# Altium footprint library VSSOP.PcbLib: 1 footprints
Each footprint in its own frame and in the unit in brackets; x right, y up, seen from the top. Pads: shape width x height; smd on the part's side, far side on the other; paste and mask are expansions set on the pad; w line width, h text height; cw(c..) or ccw(c..) is an arc to the next point about the centre after c.
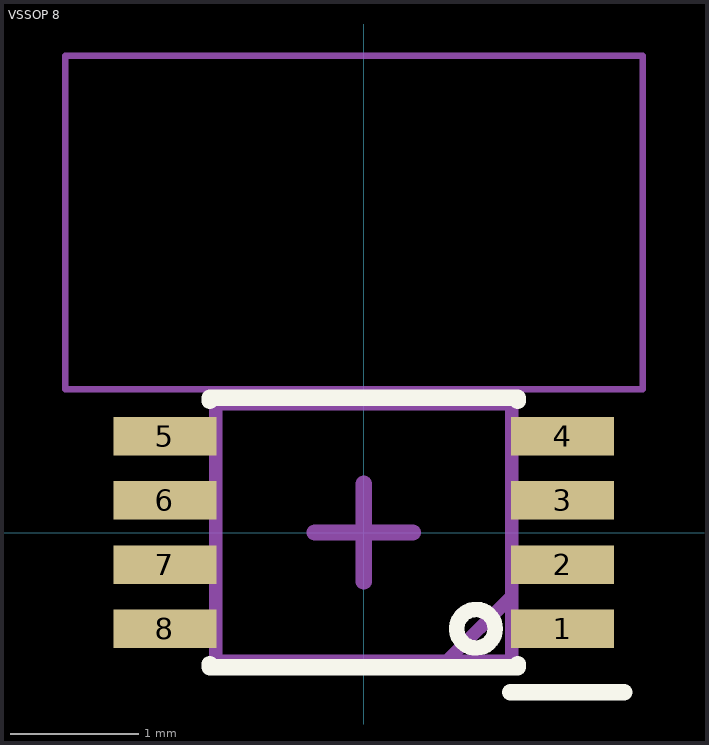
[diagram p0: the footprint, top view; thin cyan lines are the x and y axes]

## VSSOP 8 [mm] "SOP50P310X90-8N"
pads (8):
  rect 0.8x0.3 smd mask+0.05: 1(1.55,-0.75) 2(1.55,-0.25) 3(1.55,0.25) 4(1.55,0.75) 5(-1.55,0.75) 6(-1.55,0.25) 7(-1.55,-0.25) 8(-1.55,-0.75)
Top Overlay:
  circle w0.12: c0.875,-0.75 r0.15
  lines w0.127: -1.2,-1.025 -1.2,-1.05 1.2,-1.05 1.2,-1.025 ; -1.2,1.025 -1.2,1.05 1.2,1.05 1.2,1.025 ; 1.143,-1.245 2.032,-1.245
Mechanical 14:
  circle w0.01: c0.875,-0.75 r0.2
  lines w0.01: -1.2,-0.85 -1.6,-0.85 -1.6,-0.65 -1.2,-0.65 ; -1.2,-0.35 -1.6,-0.35 -1.6,-0.15 -1.2,-0.15 ; -1.2,0.15 -1.6,0.15 -1.6,0.35 -1.2,0.35 ; -1.2,0.65 -1.6,0.65 -1.6,0.85 -1.2,0.85 ; 1.2,-0.85 1.6,-0.85 1.6,-0.65 1.2,-0.65 ; 1.2,-0.35 1.6,-0.35 1.6,-0.15 1.2,-0.15 ; 1.2,0.15 1.6,0.15 1.6,0.35 1.2,0.35 ; 1.2,0.65 1.6,0.65 1.6,0.85 1.2,0.85 ; -1.2,-1.05 1.2,-1.05 1.2,1.05 -1.2,1.05 -1.2,-1.05
  text "5" at -1.3,0.6 h0.75
  text "8" at -1.3,-0.9 h0.75
  text "4" at 1.8,0.575 h0.75
  text "1" at 1.8,-0.875 h0.75
Mechanical 15:
  lines w0.1: 0.65,-1 1.15,-0.5 ; -1.15,-1 1.15,-1 1.15,1 -1.15,1 -1.15,-1
  lines w0.127: -0.381,0 0.381,0 ; 0,-0.381 0,0.381
Mechanical 20:
  lines w0.05: -2.326,1.117 2.174,1.117 2.174,3.717 -2.326,3.717 -2.326,1.117
3D body "User Library-SOP50P310X90-8N[8US8_VSSOP_DCU_MO-187CA].STEP": height 0.9, standoff 0, extent -1.6,-1.046 1.6,1.054